# Altium footprint library MECH400ETB.PcbLib: 24 footprints (part 1 of 2)
Each footprint in its own frame and in the unit in brackets; x right, y up, seen from the top. Pads: shape width x height; smd on the part's side, far side on the other; paste and mask are expansions set on the pad; w line width, h text height; cw(c..) or ccw(c..) is an arc to the next point about the centre after c.
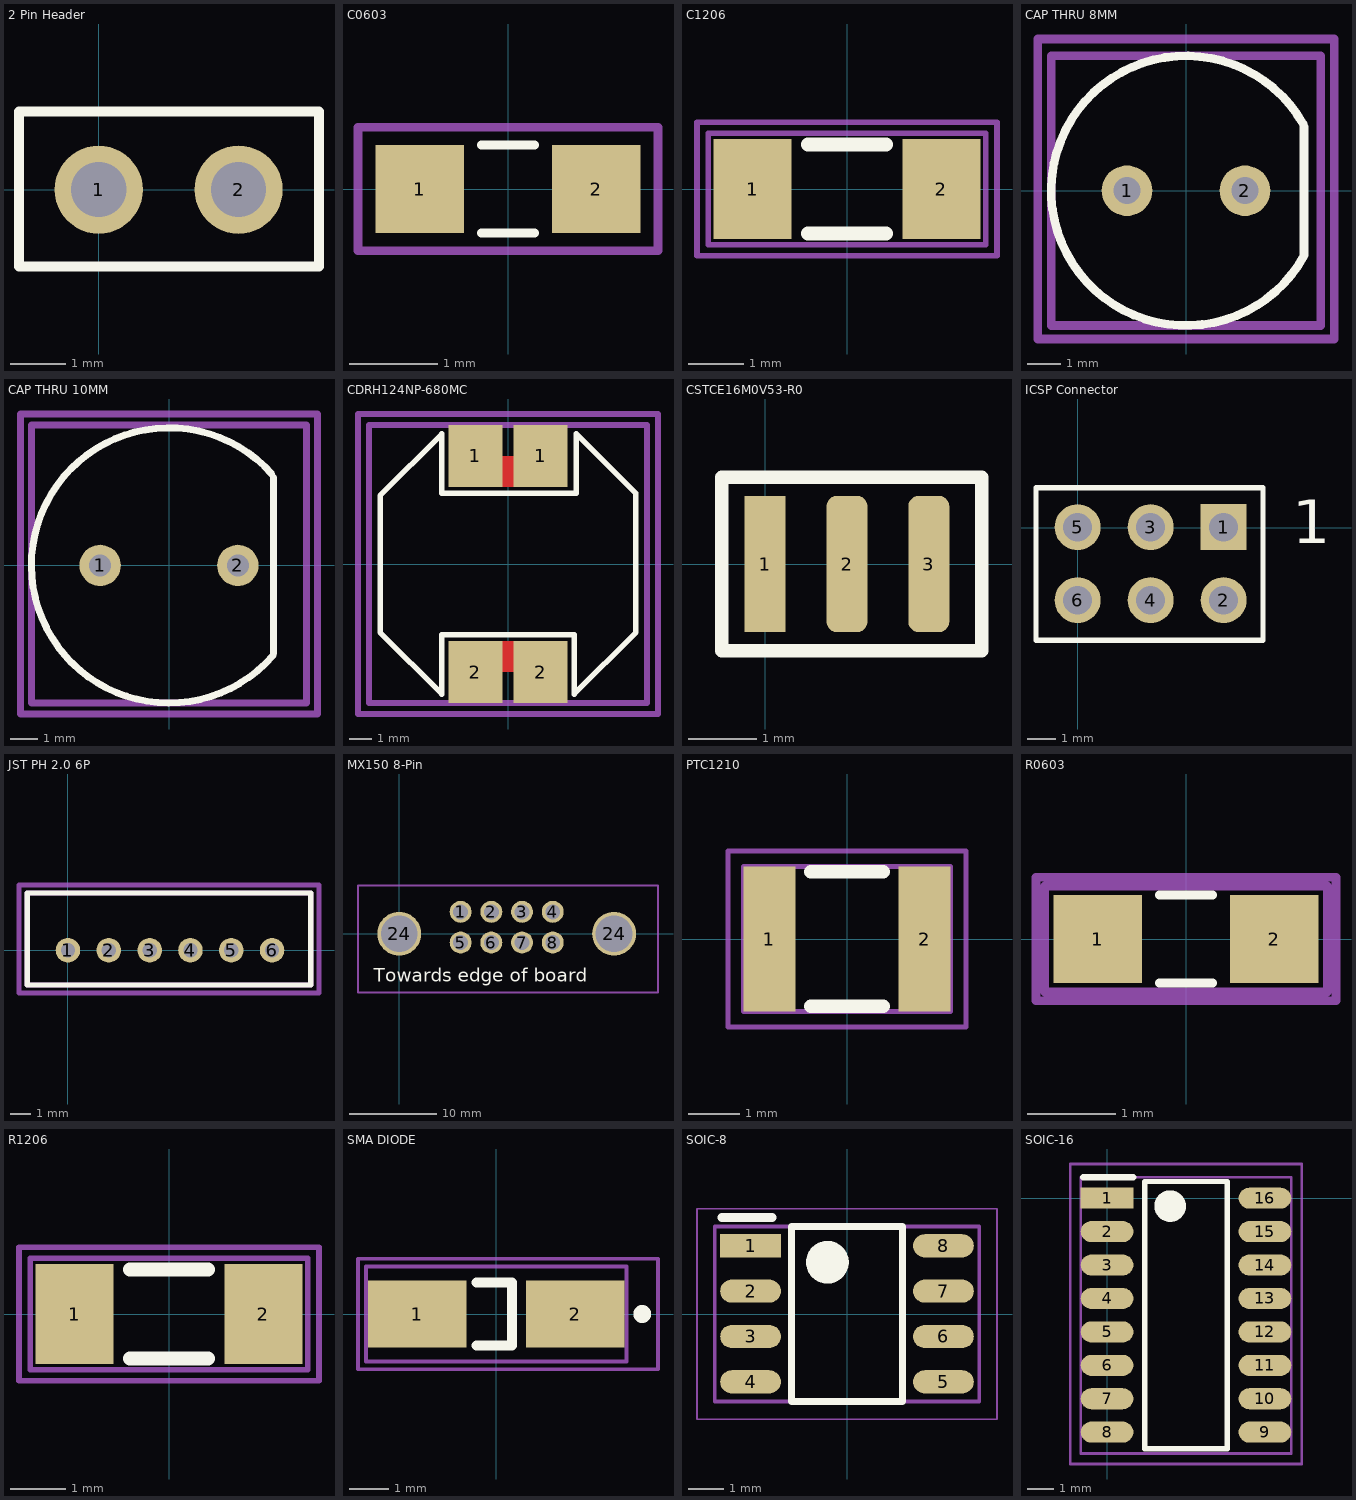
[diagram p0: the footprints below, top view; thin cyan lines are the x and y axes]

## 2 Pin Header [mm]
pads (2):
  round 1.6 hole 1: 1(0,0) 2(2.54,0)
Top Overlay:
  lines w0.178: -1.448,-1.397 -1.448,1.422 4,1.422 4,-1.397 -1.448,-1.397

## C0603 [mm]
pads (2):
  rect 1x1 smd: 1(-1,0) 2(1,0)
Top Overlay:
  lines w0.1: -0.3,-0.5 0.3,-0.5 ; -0.3,0.5 0.3,0.5
Mechanical 15:
  lines w0.1: -1.7,-0.7 -1.7,0.7 1.7,0.7 1.7,-0.7 -1.7,-0.7
3D body: height 0.4, standoff 0, extent -0.8,-0.4 0.8,0.4

## C1206 [mm]
pads (2):
  rect 1.4x1.8 smd: 1(-1.7,0) 2(1.7,0)
Top Overlay:
  lines w0.254: -0.7,-0.8 0.7,-0.8 ; -0.7,0.8 0.7,0.8
Mechanical 13:
  lines w0.1: -2.5,-1 -2.5,1 2.5,1 2.5,-1 -2.5,-1
Mechanical 15:
  lines w0.1: -2.7,-1.2 -2.7,1.2 2.7,1.2 2.7,-1.2 -2.7,-1.2
3D body: height 0.6, standoff 0, extent -1.5,-0.8 1.5,0.8

## CAP THRU 8MM [mm]
pads (2):
  round 1.5 hole 0.8: 1(-1.75,0) 2(1.75,0)
Top Overlay:
  lines w0.254: 3.473,1.985 ccw(c0,0) 3.512,-1.915 ; 3.5,-1.9 3.5,1.9
Mechanical 13:
  lines w0.254: -4,-4 4,-4 4,4 -4,4 -4,-4
Mechanical 15:
  lines w0.254: -4.4,-4.4 4.4,-4.4 4.4,4.5 -4.4,4.5 -4.4,-4.4
3D body: height 10, standoff 0, extent -4,-4 4,4

## CAP THRU 10MM [mm]
pads (2):
  round 1.5 hole 0.8: 1(-2.5,0) 2(2.5,0)
Top Overlay:
  lines w0.254: 3.731,3.328 ccw(c0,0) 3.775,-3.278 ; 3.8,-3.2 3.8,3.2
Mechanical 13:
  lines w0.254: -5,-5 -5,5.1 5,5.1 5,-5 -5,-5
Mechanical 15:
  lines w0.254: -5.4,-5.4 -5.4,5.5 5.4,5.5 5.4,-5.4 -5.4,-5.4
3D body: height 10, standoff 0, extent -5,-5 5,5.1

## CDRH124NP-680MC [mm]
pads (4):
  rect 2.45x2.8 smd: 1(-1.475,4.9) 1(1.475,4.9) 2(-1.475,-4.9) 2(1.475,-4.9)
Top Layer:
  rectangle: -0.8,3.5 0.7,4.9
  rectangle: -0.7,-4.9 0.8,-3.5
Top Overlay:
  lines w0.254: -5.8,-3.1 -5.8,2.5 -5.8,3.1 -3,5.9 -3,3.2 3.1,3.2 3.1,5.9 5.8,3.2 5.8,-3.1 3,-5.9 3,-3.2 -3,-3.2 -3,-5.9 -5.8,-3.1
Mechanical 13:
  lines w0.254: -6.3,-6.3 6.3,-6.3 6.3,6.3 -6.3,6.3 -6.3,-6.3
Mechanical 15:
  lines w0.254: -6.8,-6.8 6.8,-6.8 6.8,6.8 -6.8,6.8 -6.8,-6.8
3D body: height 4.5, standoff 0, extent -6,-5.9 6,6

## CSTCE16M0V53-R0 [mm] "16MHz Resonator"
height 1
pads (3):
  rect 0.6x2 smd: 1(0,0)
  rrect50% 0.6x2 smd: 2(1.2,0) 3(2.4,0)
Top Overlay:
  lines w0.2: -0.635,-1.27 3.175,-1.27 3.175,1.27 -0.635,1.27 -0.635,-0.465 -0.635,-1.27

## ICSP Connector [mm]
pads (6):
  rect 1.6x1.6 hole 1: 1(5.08,0.025)
  round 1.6 hole 1: 2(5.08,-2.515) 3(2.54,0.025) 4(2.54,-2.515) 5(0,0.025) 6(0,-2.515)
Top Overlay:
  lines w0.178: -1.448,-3.912 -1.448,1.397 6.452,1.397 6.452,-3.912 -1.448,-3.912
  text "1" at 7.468,-0.533 h1.52

## JST PH 2.0 6P [mm]
pads (6):
  round 1.2 hole 0.7: 1(0,0) 2(2,0) 3(4,0) 4(6,0) 5(8,0) 6(10,0)
Top Overlay:
  lines w0.254: -2,-1.7 -2,2.8 11.9,2.8 11.9,-1.7 -2,-1.7
Mechanical 13:
  lines w0.254: -2,-1.7 -2,2.8 11.9,2.8 11.9,-1.7 -2,-1.7
Mechanical 15:
  lines w0.254: -2.4,-2.1 -2.4,3.2 12.3,3.2 12.3,-2.1 -2.4,-2.1
3D body: height 6, standoff 0, extent -2,-1.7 11.9,2.8

## MX150 8-Pin [mm]
pads (10):
  round 2.5 hole 1.7: 1(7,2.5) 2(10.5,2.5) 3(14,2.5) 4(17.5,2.5) 5(7,-1) 6(10.5,-1) 7(14,-1) 8(17.5,-1)
  round 5 hole 4.2 mask+0.102: 24(0,0) 24(24.5,0)
Top Overlay:
  text "Towards edge of board" at -2.9,-5.5 h1.52
Mechanical 13:
  lines w0.254: -4.7,-6.7 -4.7,5.5 29.5,5.5 29.5,-6.7 -4.7,-6.7

## PTC1210 [mm]
pads (2):
  rect 1x2.8 smd: 1(-1.5,0) 2(1.5,0)
Top Overlay:
  lines w0.254: -0.7,-1.3 0.7,-1.3 ; -0.7,1.3 0.7,1.3
Mechanical 13:
  lines w0.1: -2,-1.4 2,-1.4 2,1.4 -2,1.4 -2,-1.4
Mechanical 15:
  lines w0.1: -2.3,-1.7 2.3,-1.7 2.3,1.7 -2.3,1.7 -2.3,-1.7
3D body: height 0.6, standoff 0, extent -1.5,-1.3 1.5,1.3

## R0603 [mm]
pads (2):
  rect 1x1 smd: 1(-1,0) 2(1,0)
Top Overlay:
  lines w0.1: -0.3,-0.5 0.3,-0.5 ; -0.3,0.5 0.3,0.5
Mechanical 13:
  lines w0.1: -1.6,-0.6 1.6,-0.6 1.6,0.6 -1.6,0.6 -1.6,-0.6
Mechanical 15:
  lines w0.1: -1.7,-0.7 1.7,-0.7 1.7,0.7 -1.7,0.7 -1.7,-0.7
3D body: height 0.4, standoff 0, extent -0.8,-0.4 0.8,0.4

## R1206 [mm]
pads (2):
  rect 1.4x1.8 smd: 1(-1.7,0) 2(1.7,0)
Top Overlay:
  lines w0.254: -0.7,-0.8 0.7,-0.8 ; -0.7,0.8 0.7,0.8
Mechanical 13:
  lines w0.1: -2.5,-1 -2.5,1 2.5,1 2.5,-1 -2.5,-1
Mechanical 15:
  lines w0.1: -2.7,-1.2 -2.7,1.2 2.7,1.2 2.7,-1.2 -2.7,-1.2
3D body: height 0.6, standoff 0, extent -1.5,-0.8 1.5,0.8

## SMA DIODE [mm]
pads (2):
  rect 2.5x1.7 smd: 1(-2,0) 2(2,0)
Top Overlay:
  circle w0.254: c3.7,0 r0.1
  lines w0.254: -0.5,-0.8 0.4,-0.8 0.4,0.8 -0.5,0.8
Mechanical 13:
  lines w0.1: -3.3,-1.2 -3.3,1.2 3.3,1.2 3.3,-1.2 -3.3,-1.2
Mechanical 15:
  lines w0.1: -3.5,-1.4 -3.5,1.4 4.1,1.4 4.1,-1.4 -3.5,-1.4
3D body: height 2, standoff 0, extent -2.1,-1.2 2.2,1.2

## SOIC-8 [mm] "SOIC, 8-Leads, Body 4.90x3.90mm, Pitch 1.27mm, IPC Low Density"
height 1.75
pads (8):
  rect 1.7x0.65 smd: 1(-2.7,1.91)
  oval 1.7x0.65 smd: 2(-2.7,0.64) 3(-2.7,-0.63) 4(-2.7,-1.9) 5(2.7,-1.9) 6(2.7,-0.63) 7(2.7,0.64) 8(2.7,1.91)
Top Overlay:
  circle w0.6: c-0.55,1.45 r0.3
  lines w0.2: -1.55,-2.45 1.55,-2.45 1.55,2.45 -1.55,2.45 -1.55,-2.45
  lines w0.254: -3.5,2.7 -2.1,2.7
Mechanical 13:
  lines w0.1: -3.7,-2.45 3.7,-2.45 3.7,2.45 -3.7,2.45 -3.7,-2.45
Mechanical 15:
  lines w0.05: -4.2,-2.95 4.2,-2.95 4.2,2.95 -4.2,2.95 -4.2,-2.95
3D body: height 1.75, standoff 0.1, extent -1.95,-2.45 1.95,2.45

## SOIC-16 [mm]
pads (16):
  rect 2x0.8 smd: 1(0,0)
  oval 2x0.8 smd: 2(0,-1.27) 3(0,-2.54) 4(0,-3.81) 5(0,-5.08) 6(0,-6.35) 7(0,-7.62) 8(0,-8.89) 9(6,-8.89) 10(6,-7.62) 11(6,-6.35) 12(6,-5.08) 13(6,-3.81) 14(6,-2.54) 15(6,-1.27) 16(6,0)
Top Overlay:
  circle w0.6: c2.4,-0.3 r0.3
  lines w0.2: 1.435,-9.525 1.435,0.635 4.565,0.635 4.565,-9.525 1.435,-9.525
  lines w0.254: -0.9,0.8 1,0.8
Mechanical 13:
  lines w0.1: -1,-9.7 7,-9.7 7,0.8 -1,0.8 -1,-9.7
Mechanical 15:
  lines w0.1: -1.4,-10.1 -1.4,1.3 7.4,1.3 7.4,-10.1 -1.4,-10.1
3D body: height 1.2, standoff 0, extent 1.1,-9.7 4.9,0.8